# EAGLE library part PIC10F200T (library Microchip-AON)
IC MCU Flash 256B of FLASH
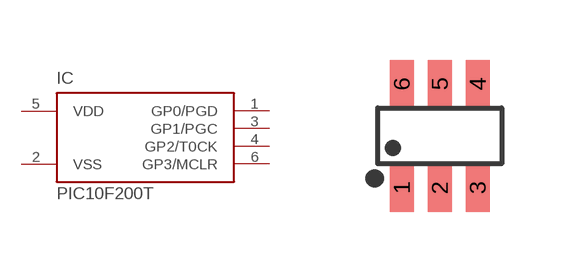
[diagram p2: symbol with the pads of SOT23-6; footprint SOT23-6]

Designator prefix IC

## PIC10F200T-I/OT  [SOT23-6]
1  GP0/PGD
2  VSS  in
3  GP1/PGC
4  GP2/T0CK
5  VDD  in
6  GP3/MCLR

## Footprint SOT23-6 (pad centres in mm)
Sot23-6 Microchip OT
smd 0.6 x 1.2: 1 -0.95,-1.3; 2 0,-1.3; 3 0.95,-1.3; 4 0.95,1.3; 5 0.003,1.3; 6 -0.95,1.3